# EAGLE library part 6N137 (library semiconductors)
MOTOROLA OPTO COUPLER
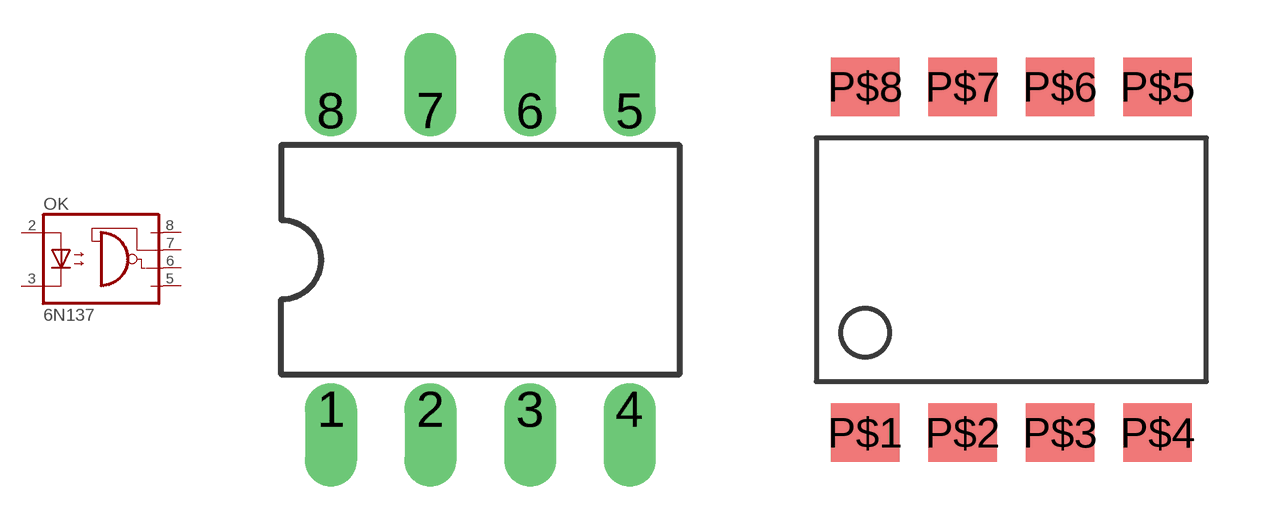
[diagram p2: symbol with the pads of DIL08; footprints DIL08, 8-SMD]

Designator prefix OK

## 6N137 (MPN: 6N137; OC_FARNELL: 1328376; OC_NEWARK: 52M1895)  [DIL08]
2  A  pas
3  C  pas
5  GND  pas
6  VO  pas
7  VE  pas
8  VCC  pas

## 6N137SMD  [8-SMD]
P$2  A  pas
P$3  C  pas
P$5  GND  pas
P$6  VO  pas
P$7  VE  pas
P$8  VCC  pas

## Footprint DIL08 (pad centres in mm)
Dual In Line Package
drill 0.813 offset: 1 -3.81,-3.81; 2 -1.27,-3.81; 3 1.27,-3.81; 4 3.81,-3.81; 5 3.81,3.81; 6 1.27,3.81; 7 -1.27,3.81; 8 -3.81,3.81

## Footprint 8-SMD (pad centres in mm)
smd 1.778 x 1.524: P$1 -3.81,-4.508; P$2 -1.27,-4.508; P$3 1.27,-4.508; P$4 3.81,-4.508; P$5 3.81,4.508; P$6 1.27,4.508; P$7 -1.27,4.508; P$8 -3.81,4.508